# Altium integrated library HexaPod - Connector.IntLib: 2 symbols
Pins are listed as number, name and electrical type; pins without a type are passive.

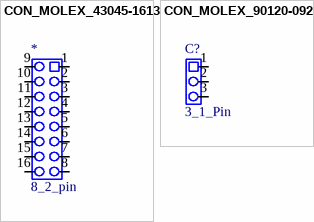
[diagram p0: symbols CON_MOLEX_43045-1613 to CON_MOLEX_90120-0923]

## CON_MOLEX_43045-1613
designator *, comment 8_2_pin
16 CKT VERT HEADER; Part Number: CON_MOLEX_43045-1613; Manufacturer: Molex; Manufacturer Part Number: 43045-1613; Reihe: 2; Distance: 3.0 mm; Nennstrom: 8.5 A; Pins: 8; Type: Micro-Fit 3.0; Datasheet: https://www.molex.com/en-us/products/part-detail/430451613?display=pdf; Operating Temperature: -40°C - +105°C; Mouser Link: https://www.mouser.de/ProductDetail/Molex/43045-1613?qs=SeTnVz%252B%252BFGD0sbBJn6iVHw%3D%3D
footprint 8_2_MicroFit3
pins: 1, 2, 3, 4, 5, 6, 7, 8, 9, 10, 11, 12, 13, 14, 15, 16

## CON_MOLEX_90120-0923
designator C?, comment 3_1_Pin
2.54MM 3P VERT HDR SR AU PLATING; Part Number: CON_MOLEX_90120-0923; Manufacturer: Molex; Manufacturer Part Number: 90120-0923; Reihe: 1; Type: Breakaway; Nennstrom: 3 A; Pins: 3; Distance: 2.54 mm; Datasheet: https://www.molex.com/en-us/products/part-detail/901200923?display=pdf; Operating Temperature: -55°C - +125°C; Mouser Link: https://www.mouser.de/ProductDetail/Molex/90120-0923?qs=PvP5v7Eimsnghocwqx8SVQ%3D%3D
footprint 3_1_Breakaway
pins: 1, 2, 3